# EAGLE library part SN74LV138APWR (library SN74LV138APWR)
Texas Instruments SN74LV138APWR, Decoder, Demultiplexer, 1-of-8, Inverting, 2 5.5 V, 16-Pin TSSOP Source: Datasheet <http://www.ti.com/lit/gpn/sn74lv138a>
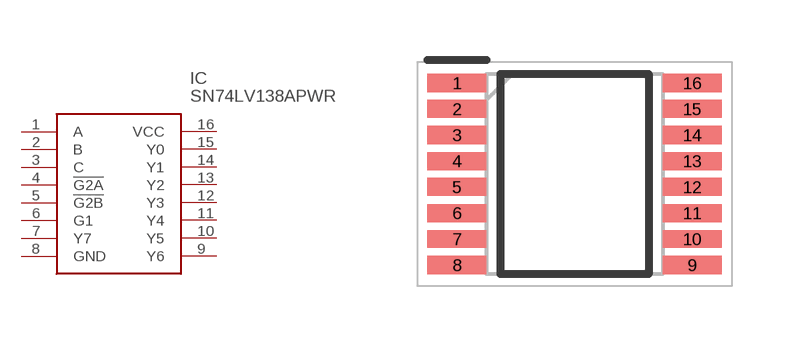
[diagram p0: symbol with the pads of SOP65P640X120-16N; footprint SOP65P640X120-16N]

Designator prefix IC

## SN74LV138APWR (Description: Texas Instruments SN74LV138APWR, Decoder, Demultiplexer, 1-of-8, Inverting, 2 5.5 V, 16-Pin TSSOP; Height: 1.2mm; Manufacturer_Name: Texas Instruments; Manufacturer_Part_Number: SN74LV138APWR; Mouser_Part_Number: 595-SN74LV138APWR; Mouser_Price-Stock: https://www.mouser.co.uk/ProductDetail/Texas-Instruments/SN74LV138APWR?qs=gqbMQSs93zM7bjlV3MhXvw%3D%3D)  [SOP65P640X120-16N]
1  A
2  B
3  C
4  !G2A
5  !G2B
6  G1
7  Y7
8  GND
9  Y6
10  Y5
11  Y4
12  Y3
13  Y2
14  Y1
15  Y0
16  VCC

## Footprint SOP65P640X120-16N (pad centres in mm)
PW0016A
smd 1.475 x 0.45: 1 -2.938,2.275; 2 -2.938,1.625; 3 -2.938,0.975; 4 -2.938,0.325; 5 -2.938,-0.325; 6 -2.938,-0.975; 7 -2.938,-1.625; 8 -2.938,-2.275; 9 2.938,-2.275; 10 2.938,-1.625; 11 2.938,-0.975; 12 2.938,-0.325; 13 2.938,0.325; 14 2.938,0.975; 15 2.938,1.625; 16 2.938,2.275